# Altium schematic symbol library 1-284391-2.SchLib: 1 symbol
Pins are listed as number, name and electrical type; pins without a type are passive.

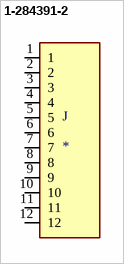
[diagram p0: symbol 1-284391-2]

## 1-284391-2
designator J
Conn Eurostyle Block F 12 POS 3.5mm Solder ST Thru-Hole 12A/Contact Box; MF: TE Connectivity; MP: 1-284391-2; DigiKey-Purchase-URL: https://snapeda.com/shop?store=DigiKey&id=2875340; Arrow_Electronics-Purchase-URL: https://snapeda.com/shop?store=Arrow+Electronics&id=2875340; Price: None; Availability: Good; Value: *; Package: None; Mouser-Purchase-URL: https://snapeda.com/shop?store=Mouser&id=2875340; SnapEDA_Link: https://www.snapeda.com/parts/1-284391-2/TE%20Connectivity%20AMP%20Connectors/view-part/2875340/?ref=snap
footprint TE_1-284391-2
pins: 1, 2, 3, 4, 5, 6, 7, 8, 9, 10, 11, 12